# EAGLE library part ACS714 (library sc_usercreated)
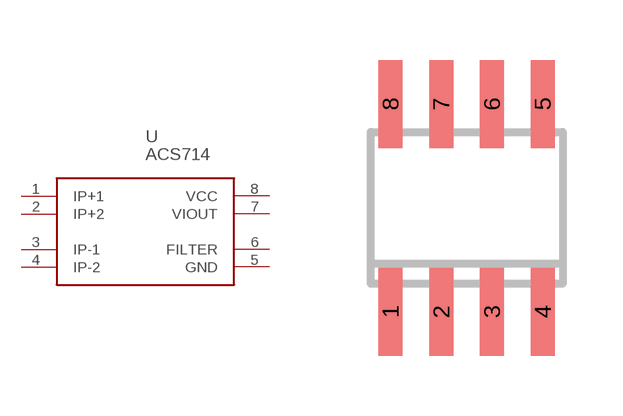
[diagram p12: symbol with the pads of SOIC8; footprint SOIC8]

Designator prefix U

## ACS714  [SOIC8]
1  IP+1
2  IP+2
3  IP-1
4  IP-2
5  GND
6  FILTER
7  VIOUT
8  VCC

## Footprint SOIC8 (pad centres in mm)
smd 0.6 x 2.2: 1 -1.905,-2.6; 2 -0.635,-2.6; 3 0.635,-2.6; 4 1.905,-2.6; 5 1.905,2.6; 6 0.635,2.6; 7 -0.635,2.6; 8 -1.905,2.6